# Altium footprint library Rectangular_Pins_PCB.PcbLib: 1 footprints
Each footprint in its own frame and in the unit in brackets; x right, y up, seen from the top. Pads: shape width x height; smd on the part's side, far side on the other; paste and mask are expansions set on the pad; w line width, h text height; cw(c..) or ccw(c..) is an arc to the next point about the centre after c.
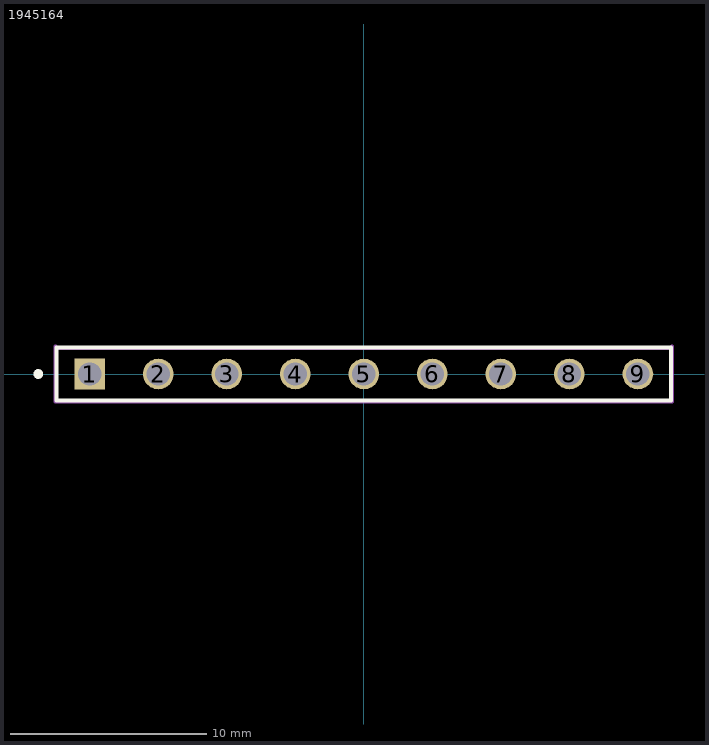
[diagram p0: the footprint, top view; thin cyan lines are the x and y axes]

## 1945164 [mm] "TERM BLOCK HDR 9POS VERT 3.5MM"
pads (9):
  rect 1.566x1.566 hole 1.2 mask+0: 1(-14,0)
  round 1.566 hole 1.2 mask+0: 2(-10.5,0) 3(-7,0) 4(-3.5,0) 5(0,0) 6(3.5,0) 7(7,0) 8(10.5,0) 9(14,0)
Top Overlay:
  circle w0.25: c-16.637,0 r0.125
  lines w0.2: -15.7,-1.35 15.7,-1.35 15.7,1.35 -15.7,1.35 -15.7,-1.35
Top Assembly:
  lines w0.2: -15.75,1.4 -15.75,-1.4 15.75,-1.4 15.75,1.4 ; -12.711,1.332 12.711,1.332
Top 3D Body:
  lines w0.2: -15.75,-1.4 15.75,-1.4 15.75,1.4 ; -15.75,-1.232 -15.75,1.232
Top Courtyard:
  lines w0.2: -15.75,1.332 15.75,1.332 ; -15.75,1.4 -15.75,-1.4 15.75,-1.4 15.75,1.4
Top Component Center:
  lines w0.1: -0.5,0 0.5,0 ; 0,-0.5 0,0.5